# EAGLE library part PMOD (library di_connectors)
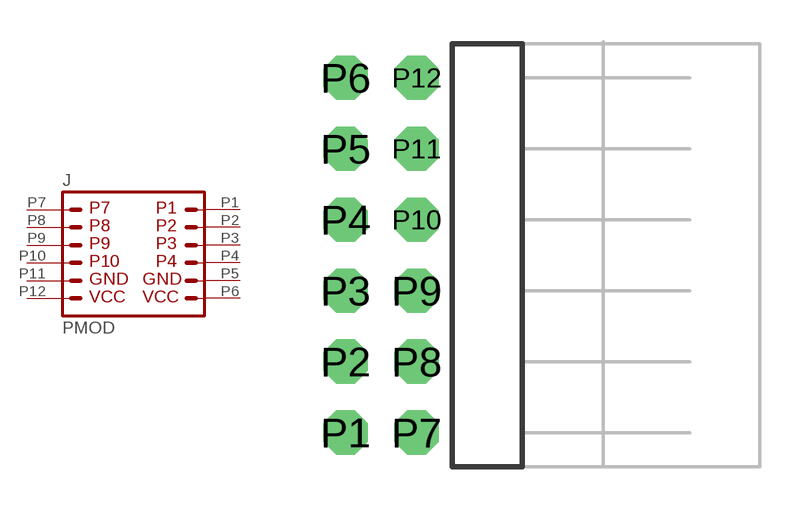
[diagram p3: symbol with the pads of PMOD; footprint PMOD]

Designator prefix J

## PMOD  [PMOD]
P1  P1  pas
P2  P2  pas
P3  P3  pas
P4  P4  pas
P5  P5  pas
P6  P6  pas
P7  P7  pas
P8  P8  pas
P9  P9  pas
P10  P10  pas
P11  P11  pas
P12  P12  pas

## Footprint PMOD (pad centres in mm)
drill 1.016 pad 1.587 octagon: P1 -1.27,0; P2 -1.27,2.54; P3 -1.27,5.08; P4 -1.27,7.62; P5 -1.27,10.16; P6 -1.27,12.7; P7 1.27,0; P8 1.27,2.54; P9 1.27,5.08; P10 1.27,7.62; P11 1.27,10.16; P12 1.27,12.7